# Altium footprint library Opto.PcbLib: 1 footprints
Each footprint in its own frame and in the unit in brackets; x right, y up, seen from the top. Pads: shape width x height; smd on the part's side, far side on the other; paste and mask are expansions set on the pad; w line width, h text height; cw(c..) or ccw(c..) is an arc to the next point about the centre after c.
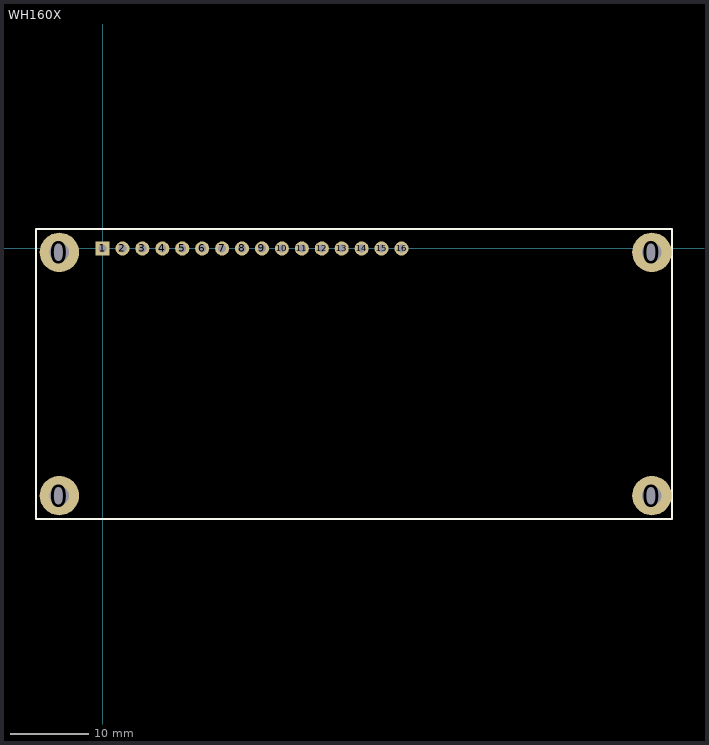
[diagram p0: the footprint, top view; thin cyan lines are the x and y axes]

## WH160X [mm]
pads (20):
  round 5 hole 2.5: 0(-5.5,-31.5) 0(-5.5,-0.5) 0(70,-31.5) 0(70,-0.5)
  rect 1.8x1.8 hole 1: 1(0,0)
  round 1.8 hole 1: 2(2.54,0) 3(5.08,0) 4(7.62,0) 5(10.16,0) 6(12.7,0) 7(15.24,0) 8(17.78,0) 9(20.32,0) 10(22.86,0) 11(25.4,0) 12(27.94,0) 13(30.48,0) 14(33.02,0) 15(35.56,0) 16(38.1,0)
Top Overlay:
  lines w0.254: -8.5,-34.5 72.591,-34.5 72.591,2.5 -8.5,2.5 -8.5,-34.5
3D body "WH1602B-1.stp": height 20.2, standoff -3, extent -8,-34 72,2